# EAGLE library part 91814-3110 (library SamacSys_Parts)
2.54mm Pitch C-Grid III Dual Row Right-Angle Shrouded Header, 10 Circuits, Tin (Sn) over Nickel (Ni) Source: Datasheet <https://www.molex.com/pdm_docs/sd/918143110_sd.pdf>
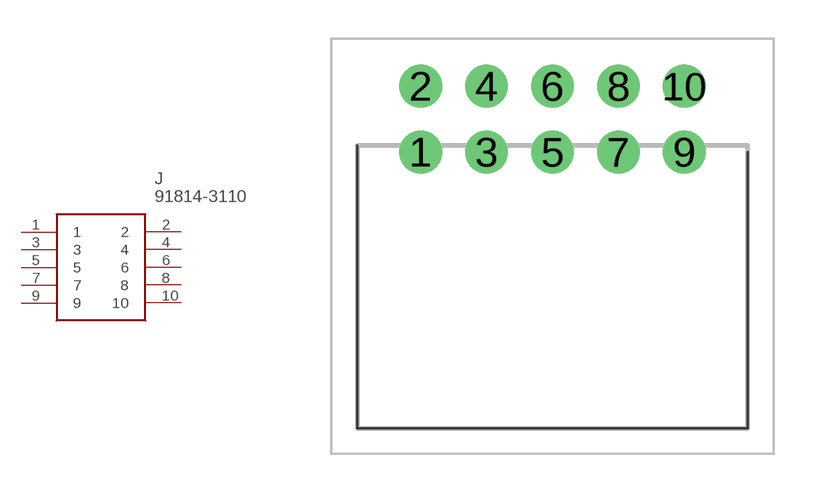
[diagram p109: symbol with the pads of 918143110; footprint 918143110]

Designator prefix J

## 91814-3110 (DESCRIPTION: 2.54mm Pitch C-Grid III Dual Row Right-Angle Shrouded Header, 10 Circuits, Tin (Sn) over Nickel (Ni); HEIGHT: 9.75mm; MANUFACTURER_NAME: Molex; MANUFACTURER_PART_NUMBER: 91814-3110; MOUSER_PART_NUMBER: 538-91814-3110; MOUSER_PRICE-STOCK: https://www.mouser.co.uk/ProductDetail/Molex/91814-3110?qs=foBNLhhmJWj4K%2F9NKQ%252B3vQ%3D%3D)  [918143110]
1  1
2  2
3  3
4  4
5  5
6  6
7  7
8  8
9  9
10  10

## Footprint 918143110 (pad centres in mm)
91814-3110
drill 1.1 pad 1.65: 1 0,0; 2 0,2.54; 3 2.54,0; 4 2.54,2.54; 5 5.08,0; 6 5.08,2.54; 7 7.62,0; 8 7.62,2.54; 9 10.16,0; 10 10.16,2.54